# EAGLE library part MMA8451 (library bleHAT)
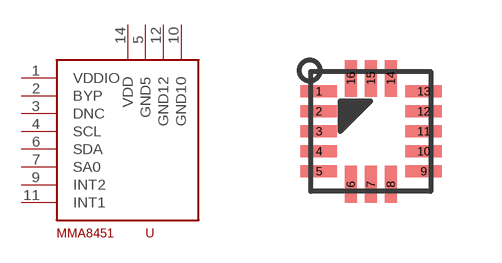
[diagram p3: symbol with the pads of QFN16_3X3; footprint QFN16_3X3]

Designator prefix -

## MMA8451  [QFN16_3X3]
1  VDDIO
2  BYP
3  DNC
4  SCL
5  GND5
6  SDA
7  SA0
9  INT2
10  GND10
11  INT1
12  GND12
14  VDD

## Footprint QFN16_3X3 (pad centres in mm)
smd 0.913 x 0.305: 1 -1.3,1; 2 -1.3,0.5; 3 -1.3,0; 4 -1.3,-0.5; 5 -1.3,-1; 9 1.325,-1; 10 1.325,-0.5; 11 1.325,0; 12 1.325,0.5; 13 1.325,1
smd 0.305 x 0.913: 6 -0.5,-1.325; 7 0,-1.325; 8 0.5,-1.325; 14 0.5,1.325; 15 0,1.325; 16 -0.5,1.325